# EAGLE library part X__MOLEX_LIEGEND_7 (library 16112011___connector)
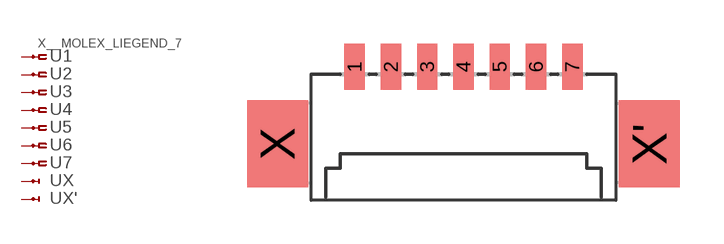
[diagram p62: symbol with the pads of MOLEX_LIEGEND_7; footprint MOLEX_LIEGEND_7]

Designator prefix -; gates 1=MOLEXPIN-NV 2=MOLEXPIN-N 3=MOLEXPIN-N 4=MOLEXPIN-N 5=MOLEXPIN-N 6=MOLEXPIN-N 7=MOLEXPIN-N X=MOLEXPIN-X X'=MOLEXPIN-X

## X__MOLEX_LIEGEND_7  [MOLEX_LIEGEND_7]
1  1:1  pas
2  2:1  pas
3  3:1  pas
4  4:1  pas
5  5:1  pas
6  6:1  pas
7  7:1  pas
X  X:1  pas
X'  X':1  pas

## Footprint MOLEX_LIEGEND_7 (pad centres in mm)
smd 0.7 x 1.6: 1 0,0; 2 1.25,0; 3 2.5,0; 4 3.75,0; 5 5,0; 6 6.25,0; 7 7.5,0
smd 2.1 x 3: X -2.656,-2.656; X' 10.156,-2.656